# Altium footprint library J PCB lib.PcbLib: 461 footprints (part 1 of 29)
Each footprint in its own frame and in the unit in brackets; x right, y up, seen from the top. Pads: shape width x height; smd on the part's side, far side on the other; paste and mask are expansions set on the pad; w line width, h text height; cw(c..) or ccw(c..) is an arc to the next point about the centre after c.
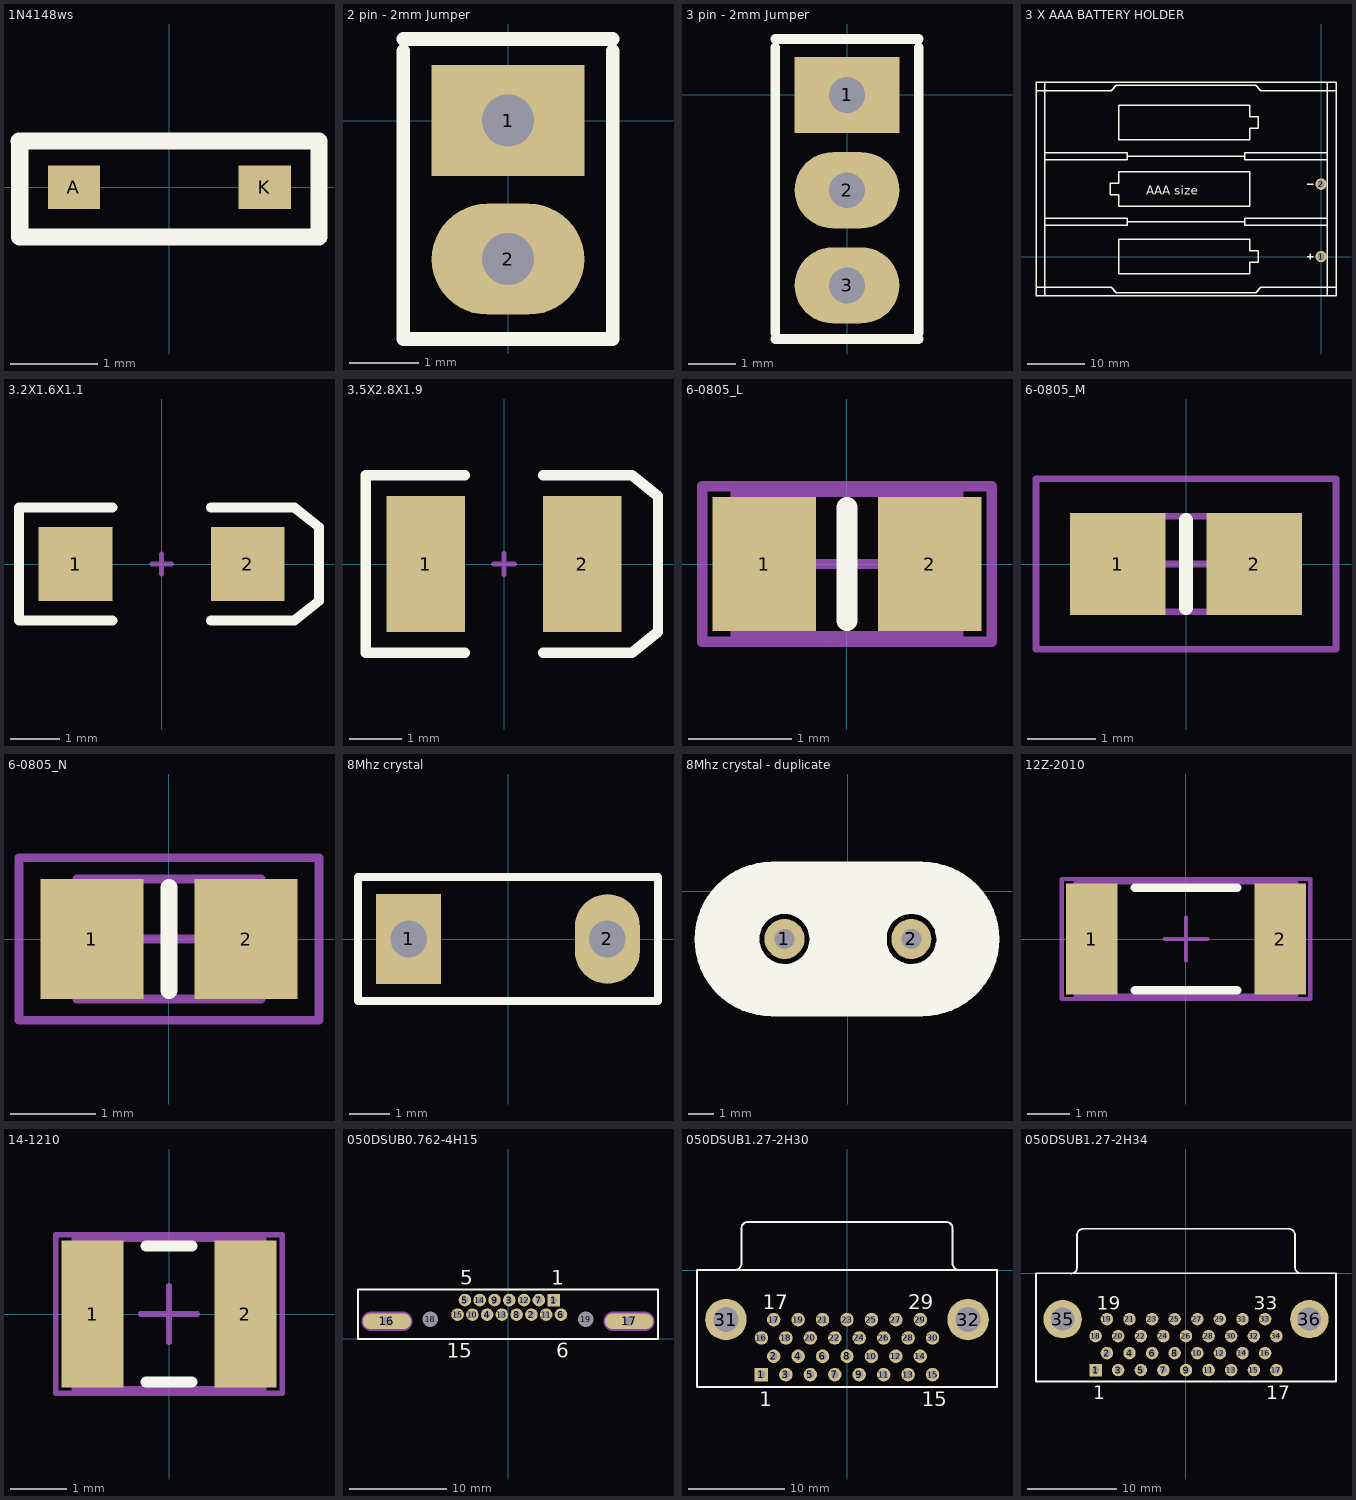
[diagram p0: the footprints below, top view; thin cyan lines are the x and y axes]

## 1N4148ws [mm] "Signal diode, SOD323FL"
pads (2):
  rect 0.6x0.5 smd: A(-1.1,0) K(1.1,0)
Top Overlay:
  lines w0.2: -1.732,0.532 1.725,0.532 1.725,-0.525 ; -1.725,0.532 -1.725,-0.575 1.725,-0.575

## 2 pin - 2mm Jumper [mm]
pads (2):
  rect 2.2x1.6 hole 0.75: 1(0,0)
  oval 2.2x1.6 hole 0.75: 2(0,-2)
Top Overlay:
  lines w0.2: -1.51,-3.15 -1.51,1 ; -1.51,1.175 1.51,1.175 ; -1.485,-3.15 1.51,-3.15 1.51,1

## 3 pin - 2mm Jumper [mm]
pads (3):
  rect 2.2x1.6 hole 0.75: 1(0,0)
  oval 2.2x1.6 hole 0.75: 2(0,-2) 3(0,-4)
Top Overlay:
  lines w0.2: -1.51,-5.125 1.51,-5.125 ; -1.51,-5 -1.51,1 ; -1.51,1.175 1.51,1.175 ; 1.51,-5 1.51,1

## 3 X AAA BATTERY HOLDER [mm]
pads (2):
  round 2 hole 1.2: 1(0,0) 2(0,12.7)
Top Overlay:
  lines w0.254: -50,-5.4 -36.85,-5.4 -35.95,-6.3 -11.45,-6.3 -10.55,-5.4 2.6,-5.4 ; -50,29.1 -36.85,29.1 -35.95,30 -11.45,30 -10.55,29.1 2.6,29.1 ; -48.5,-6.9 -48.5,30.6 ; -48.5,5.5 -34,5.5 -34,6.7 -48.5,6.7 ; -48.5,17 -34,17 -34,18.2 -48.5,18.2 ; -34,6.1 -13.4,6.1 ; -34,17.6 -13.4,17.6 ; -2.4,0 -1.4,0 ; -2.4,12.7 -1.4,12.7 ; -1.9,-0.5 -1.9,0.5 ; 1.1,-6.9 1.1,30.6 ; 1.1,5.5 -13.4,5.5 -13.4,6.7 1.1,6.7 ; 1.1,17 -13.4,17 -13.4,18.2 1.1,18.2 ; -50,-6.9 2.6,-6.9 2.6,30.6 -50,30.6 -50,-6.9 ; -37,10.85 -35.5,10.85 -35.5,8.85 -12.5,8.85 -12.5,14.85 -12.7,14.85 -35.5,14.85 -35.5,12.85 -36.7,12.85 -37,12.85 -37,10.85 ; -35.5,-3 -35.3,-3 -12.5,-3 -12.5,-1 -11.3,-1 -11,-1 -11,1 -12.5,1 -12.5,3 -35.5,3 -35.5,-3 ; -35.5,20.5 -35.3,20.5 -12.5,20.5 -12.5,22.5 -11.3,22.5 -11,22.5 -11,24.5 -12.5,24.5 -12.5,26.5 -35.5,26.5 -35.5,20.5
  text "AAA size" at -30.7,10.8 h1.52

## 3.2X1.6X1.1 [mm] "SMT LED; 2 Flat Leads"
height 1.2
pads (2):
  rect 1.5x1.5 smd: 1(-1.75,0) 2(1.75,0)
Top Overlay:
  lines w0.2: -1,-1.15 -2.9,-1.15 -2.9,1.15 -1,1.15 ; 1,-1.15 2.7,-1.15 3.2,-0.75 3.2,0.75 2.7,1.15 1,1.15
Mechanical 1:
  lines w0.1: -0.2,0 0.2,0 ; 0,-0.2 0,0.2

## 3.5X2.8X1.9 [mm] "SM LED; 2 C-Bend Leads; Body 3.5 x 2.8 x 1.9 mm, inc leads (LxWxH typ)"
height 1.9
pads (2):
  rect 1.5x2.6 smd: 1(-1.5,0) 2(1.5,0)
Top Overlay:
  lines w0.2: -0.75,-1.7 -2.65,-1.7 -2.65,1.7 -0.75,1.7 ; 0.75,-1.7 2.45,-1.7 2.95,-1.3 2.95,1.3 2.45,1.7 0.75,1.7
Mechanical 1:
  lines w0.1: -0.2,0 0.2,0 ; 0,-0.2 0,0.2

## 6-0805_L [mm] "Chip Resistor, Body 2.0x1.2mm, IPC High Density"
height 0.7
pads (2):
  rect 1x1.3 smd: 1(-0.8,0) 2(0.8,0)
Top Overlay:
  lines w0.2: 0,-0.55 0,0.55
Mechanical 13:
  lines w0.1: -1.075,-0.7 1.075,-0.7 1.075,0.7 -1.075,0.7 -1.075,-0.7
Mechanical 15:
  lines w0.1: -0.5,0 0.5,0 ; 0,-0.5 0,0.5 ; -1.4,-0.75 1.4,-0.75 1.4,0.75 -1.4,0.75 -1.4,-0.75
3D body: height 0.7, standoff 0, extent -1.075,-0.7 1.075,0.7

## 6-0805_M [mm] "Chip Resistor, Body 2.0x1.2mm, IPC Low Density"
height 0.7
pads (2):
  rect 1.4x1.5 smd: 1(-1,0) 2(1,0)
Top Overlay:
  lines w0.2: 0,-0.65 0,0.65
Mechanical 13:
  lines w0.1: -1.075,-0.7 -1.075,0.7 1.075,0.7 1.075,-0.7 -1.075,-0.7
Mechanical 15:
  lines w0.1: -0.5,0 0.5,0 ; 0,-0.5 0,0.5 ; -2.2,-1.25 -2.2,1.25 2.2,1.25 2.2,-1.25 -2.2,-1.25
3D body: height 0.7, standoff 0, extent -1.075,-0.7 1.075,0.7

## 6-0805_N [mm] "Chip Resistor, Body 2.0x1.2mm, IPC Medium Density"
height 0.7
pads (2):
  rect 1.2x1.4 smd: 1(-0.9,0) 2(0.9,0)
Top Overlay:
  lines w0.2: 0,-0.6 0,0.6
Mechanical 13:
  lines w0.1: -1.075,-0.7 -1.075,0.7 1.075,0.7 1.075,-0.7 -1.075,-0.7
Mechanical 15:
  lines w0.1: -0.5,0 0.5,0 ; 0,-0.5 0,0.5 ; -1.75,-0.95 -1.75,0.95 1.75,0.95 1.75,-0.95 -1.75,-0.95
3D body: height 0.7, standoff 0, extent -1.075,-0.7 1.075,0.7

## 8Mhz crystal [mm] "4.88mm pitch"
height 12
pads (2):
  rect 1.6x2.2 hole 0.9: 1(-2.44,0)
  oval 1.6x2.2 hole 0.9: 2(2.44,0)
Top Overlay:
  lines w0.2: -3.683,-1.524 -2.07,-1.524 0.883,-1.524 3.683,-1.524 3.683,1.524 -3.683,1.524 -3.683,-1.524

## 8Mhz crystal - duplicate [mm] "Crystal 1WithOutBody"
height 12
pads (2):
  round 1.6 hole 0.8: 1(-2.54,-1.905) 2(2.54,-1.905)
Top Overlay:
  circle w0.5: c-2.54,-1.905 r1.25
  rectangle: -3.74,-0.846 3.71,1.045
  rectangle: -3.74,-4.905 3.71,-2.905
  rectangle: -1.49,-3.355 1.56,-0.605
  rectangle: -4.54,-4.455 -3.59,0.495
  rectangle: -5.09,-3.905 -4.29,0.045
  rectangle: -5.54,-3.405 -4.74,-0.555
  rectangle: 3.56,-4.355 4.51,0.445
  rectangle: 4.31,-3.855 5.01,-0.005
  rectangle: 4.81,-3.255 5.36,-0.655
  lines w0.2: -3.045,-4.908 cw(c-3.045,-1.911) -3.045,1.086 ; -3.04,-4.905 2.96,-4.905 ; -3.04,-4.755 cw(c-3.04,-1.905) -3.04,0.945 ; -3.04,1.095 2.975,1.095 ; 2.96,-4.755 ccw(c2.96,-1.905) 2.96,0.945 ; 2.975,-4.908 ccw(c2.975,-1.911) 2.975,1.086
  lines w0.5: -3.04,-4.605 cw(c-3.04,-1.905) -3.04,0.795 ; 2.81,-4.605 ccw(c2.81,-1.905) 2.81,0.795 ; 3.652,-1.335 ccw(c2.54,-1.905) 3.742,-1.56

## 12Z-2010 [mm] "Chip Resistor, Body 5.0x2.5mm, IPC High Density"
height 0.9
pads (2):
  rect 1.2x2.6 smd: 1(-2.2,0) 2(2.2,0)
Top Overlay:
  lines w0.2: -1.2,-1.2 1.2,-1.2 ; -1.2,1.2 1.2,1.2
Mechanical 13:
  lines w0.1: -2.575,-1.325 2.575,-1.325 2.575,1.325 -2.575,1.325 -2.575,-1.325
Mechanical 15:
  lines w0.1: -0.5,0 0.5,0 ; 0,-0.5 0,0.5 ; -2.9,-1.4 2.9,-1.4 2.9,1.4 -2.9,1.4 -2.9,-1.4
3D body: height 0.9, standoff 0, extent -2.575,-1.325 2.575,1.325

## 14-1210 [mm] "Chip Resistor, Body 3.2x2.5mm, IPC High Density"
height 0.9
pads (2):
  rect 1.1x2.6 smd: 1(-1.35,0) 2(1.35,0)
Top Overlay:
  lines w0.2: -0.4,-1.2 0.4,-1.2 ; -0.4,1.2 0.4,1.2
Mechanical 13:
  lines w0.1: -1.675,-1.32 1.675,-1.32 1.675,1.32 -1.675,1.32 -1.675,-1.32
Mechanical 15:
  lines w0.1: -0.5,0 0.5,0 ; 0,-0.5 0,0.5 ; -2,-1.4 2,-1.4 2,1.4 -2,1.4 -2,-1.4
3D body: height 0.9, standoff 0, extent -1.675,-1.32 1.675,1.32

## 050DSUB0.762-4H15 [mm] "Connector; D Subminiature; 15 Position; Right Angle; Pitch 0.762 mm"
height 12.65
pads (19):
  rect 1.3x1.3 hole 0.7: 1(4.703,4)
  round 1.3 hole 0.7: 2(2.417,2.5) 3(0.131,4) 4(-2.155,2.5) 5(-4.441,4) 6(5.465,2.5) 7(3.179,4) 8(0.893,2.5) 9(-1.393,4) 10(-3.679,2.5) 11(3.941,2.5) 12(1.655,4) 13(-0.631,2.5) 14(-2.917,4) 15(-5.203,2.5)
  oval 5x1.6 hole 1: 16(-12.495,1.8) 17(12.495,1.8)
  round 1.3 hole 1.6: 18(-8,2) 19(8,2)
Top Overlay:
  lines w0.2: -15.48,0 -15.48,5.1 15.48,5.1 15.48,0 -15.48,0
  text "5" at -4.941,5.6 h1.5
  text "1" at 4.453,5.6 h1.5
  text "6" at 4.965,-1.975 h1.5
  text "15" at -6.328,-1.975 h1.5
Mechanical 1:
  lines w1.2: -14.12,1.8 -10.87,1.8 ; 10.87,1.8 14.12,1.8
  text "Mech 2 - Clearance, move to internal plane if present" at -15.505,-2.67 h0.3
  text "Mech 1 - Slot cut-out" at -15.505,-2.17 h0.3
  text "Assign keep-out area to slot" at -15.505,-0.67 h0.3
  text "Slot 1.2x4.45mm, PTH" at -15.505,-1.67 h0.3
  text "Alert PCB fab to slot details" at -15.505,-1.17 h0.3
Mechanical 2:
  lines w2.016: -14.12,1.8 -10.87,1.8 ; 10.87,1.8 14.12,1.8

## 050DSUB1.27-2H30 [mm] "Connector; D Subminiature; 30 Position; Right Angle; Pitch 1.27 mm"
height 8.1
pads (32):
  rect 1.4x1.4 hole 0.8: 1(-8.89,-10.87)
  round 1.4 hole 0.8: 2(-7.62,-8.965) 3(-6.35,-10.87) 4(-5.08,-8.965) 5(-3.81,-10.87) 6(-2.54,-8.965) 7(-1.27,-10.87) 8(0,-8.965) 9(1.27,-10.87) 10(2.54,-8.965) 11(3.81,-10.87) 12(5.08,-8.965) 13(6.35,-10.87) 14(7.62,-8.965) 15(8.89,-10.87) 16(-8.89,-7.06) 17(-7.62,-5.155) 18(-6.35,-7.06) 19(-5.08,-5.155) 20(-3.81,-7.06) 21(-2.54,-5.155) 22(-1.27,-7.06) 23(0,-5.155) 24(1.27,-7.06) 25(2.54,-5.155) 26(3.81,-7.06) 27(5.08,-5.155) 28(6.35,-7.06) 29(7.62,-5.155) 30(8.89,-7.06)
  round 4.3 hole 2.6: 31(-12.59,-5.155) 32(12.59,-5.155)
Top Overlay:
  lines w0.2: -11.67,0 ccw(c-11.67,0.695) -10.975,0.695 ; -10.975,0.715 -10.975,4.305 cw(c-10.28,4.305) -10.28,5 10.28,5 cw(c10.28,4.305) 10.975,4.305 ; 10.975,4.495 10.975,0.695 ccw(c11.67,0.695) 11.67,0 ; -15.59,-12.17 15.59,-12.17 15.59,0 -15.59,0 -15.59,-12.17
  text "15" at 7.765,-14.145 h1.5
  text "1" at -9.14,-14.145 h1.5
  text "29" at 6.37,-4.08 h1.5
  text "17" at -8.745,-4.08 h1.5

## 050DSUB1.27-2H34 [mm] "Connector; D Subminiature; 34 Position; Right Angle; Pitch 1.27 mm"
height 7.6
pads (36):
  rect 1.4x1.4 hole 0.8: 1(-10.16,-10.87)
  round 1.4 hole 0.8: 2(-8.89,-8.965) 3(-7.62,-10.87) 4(-6.35,-8.965) 5(-5.08,-10.87) 6(-3.81,-8.965) 7(-2.54,-10.87) 8(-1.27,-8.965) 9(0,-10.87) 10(1.27,-8.965) 11(2.54,-10.87) 12(3.81,-8.965) 13(5.08,-10.87) 14(6.35,-8.965) 15(7.62,-10.87) 16(8.89,-8.965) 17(10.16,-10.87) 18(-10.16,-7.06) 19(-8.89,-5.155) 20(-7.62,-7.06) 21(-6.35,-5.155) 22(-5.08,-7.06) 23(-3.81,-5.155) 24(-2.54,-7.06) 25(-1.27,-5.155) 26(0,-7.06) 27(1.27,-5.155) 28(2.54,-7.06) 29(3.81,-5.155) 30(5.08,-7.06) 31(6.35,-5.155) 32(7.62,-7.06) 33(8.89,-5.155) 34(10.16,-7.06)
  round 4.3 hole 2.6: 35(-13.86,-5.155) 36(13.86,-5.155)
Top Overlay:
  lines w0.2: -12.94,-0.02 ccw(c-12.94,0.675) -12.245,0.675 -12.245,4.305 cw(c-11.55,4.305) -11.55,5 11.5,5 ; 11.55,5 cw(c11.55,4.305) 12.245,4.305 12.245,0.695 ccw(c12.94,0.695) 12.94,0 ; -16.86,-12.17 -16.86,0 16.86,0 16.86,-12.17 -16.86,-12.17
  text "17" at 9.035,-14.145 h1.5
  text "1" at -10.41,-14.145 h1.5
  text "33" at 7.64,-4.08 h1.5
  text "19" at -10.015,-4.08 h1.5